# Altium footprint library CAP_AXIAL_610x240_W.PcbLib: 1 footprints
Each footprint in its own frame and in the unit in brackets; x right, y up, seen from the top. Pads: shape width x height; smd on the part's side, far side on the other; paste and mask are expansions set on the pad; w line width, h text height; cw(c..) or ccw(c..) is an arc to the next point about the centre after c.
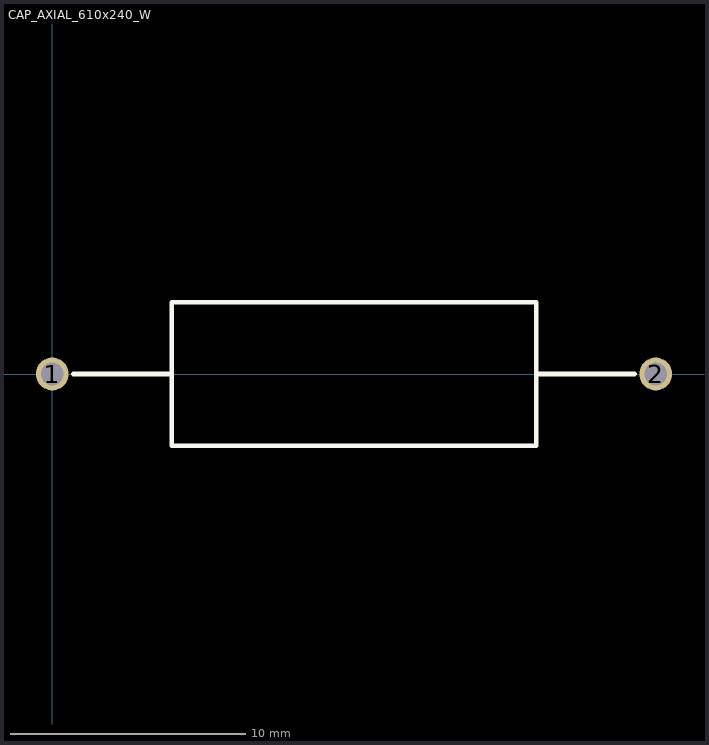
[diagram p0: the footprint, top view; thin cyan lines are the x and y axes]

## CAP_AXIAL_610x240_W [mil]
height 240
pads (2):
  round 55 hole 38: 1(0,0) 2(1010,0)
TopOverlay:
  lines w8: 35,0 200,0 ; 810,0 975,0 ; 200,-120 810,-120 810,120 200,120 200,-120
3D body: height 240, standoff 0, extent 200.02,-119.98 809.98,119.98